# EAGLE library part HSN1000 (library RaspberryPi)
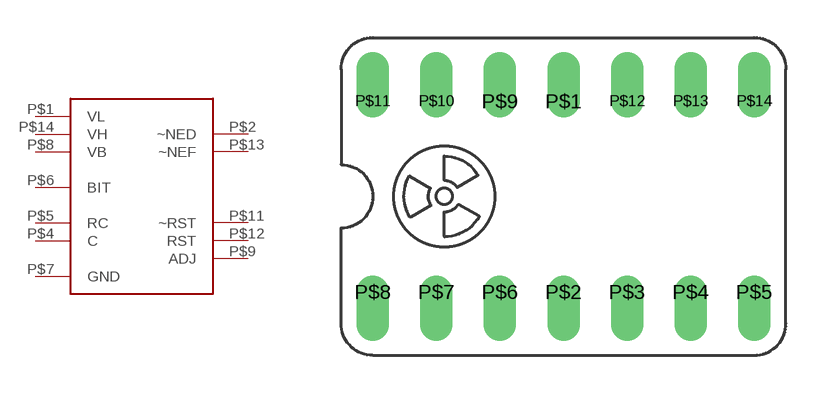
[diagram p1: symbol with the pads of HSN1000L; footprint HSN1000L]

Designator prefix -

## HSN1000  [HSN1000L]
P$1  VL  pwr
P$2  ~NED  out
P$4  C  in
P$5  RC  in
P$6  BIT  in
P$7  GND  pwr
P$8  VB  pwr
P$9  ADJ
P$11  ~RST
P$12  RST
P$13  ~NEF  out
P$14  VH  pwr

## Footprint HSN1000L (pad centres in mm)
drill 0.8 offset: P$1 0,3.81; P$2 0,-3.81; P$3 2.54,-3.81; P$4 5.08,-3.81; P$5 7.62,-3.81; P$6 -2.54,-3.81; P$7 -5.08,-3.81; P$8 -7.62,-3.81; P$9 -2.54,3.81; P$10 -5.08,3.81; P$11 -7.62,3.81; P$12 2.54,3.81; P$13 5.08,3.81; P$14 7.62,3.81